# EAGLE library part MPTC-01-80 (library samtec)
Samtec 30A Signal/Power Combo System Part number: MPTC-01-80-01 Datasheet <http://suddendocs.samtec.com/catalog_english/mptc.pdf>, Drawing <http://suddendocs.samtec.com/prints/mptc-xx-xx-xx-6.30-xx-x-v-xx-mkt.pdf>, Footprint <http://suddendocs.samtec.com/prints/mptc-xx-xx-xx-6.30-xx-x-v-xx-footprint.pdf> Created by: Ben Hurwitz Created on: 3 Dec 2015 Project: Backplane Group: Robotics @ Maryland Autonomous Submarine University of Maryland, College Park, MD, USA Description; This is an 82-pin female signal/power combination plug, with 80 5A signal pins and 2 24.7A power blades (each uses six pins). It was designed to be used on a backplane for the autonomous submarine to connect the four main daughterboards to the CPU and batteries via the backplane. It fits with the Samtec MPSC male half.
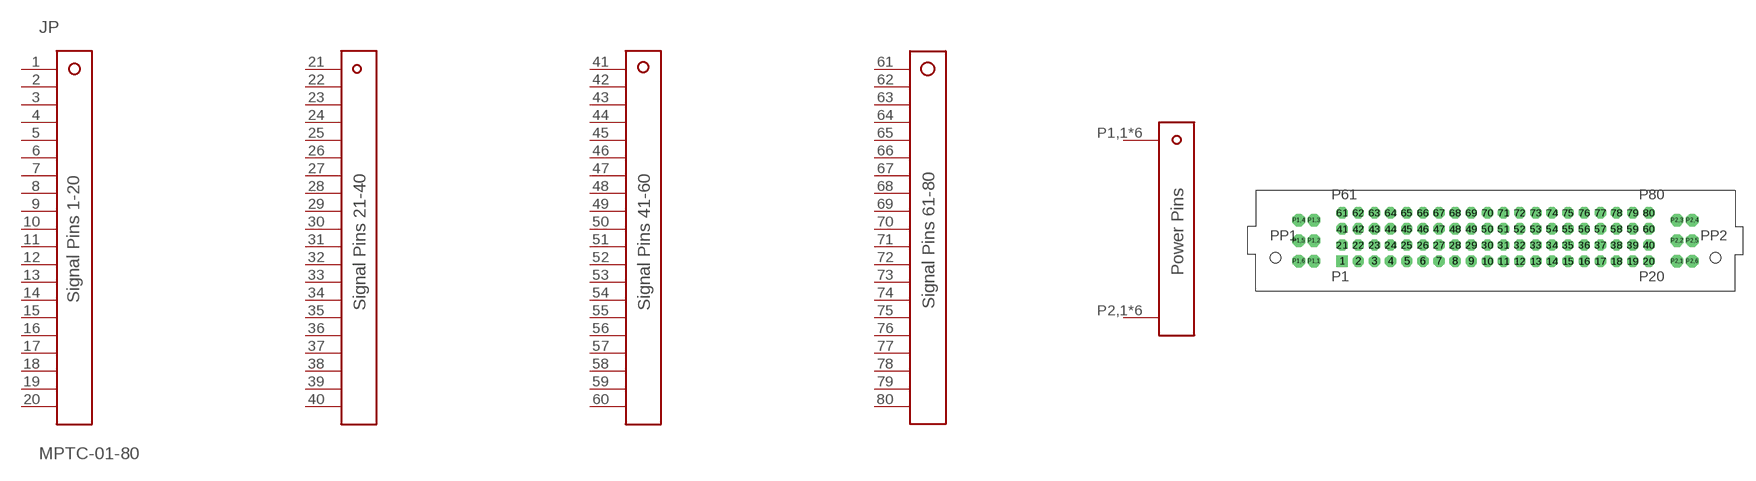
[diagram p0: symbol with the pads of MPTC-01-80; footprint MPTC-01-80]

Designator prefix JP

## MPTC-01-80  [MPTC-01-80]
1  P$1
2  P$2
3  P$3
4  P$4
5  P$5
6  P$6
7  P$7
8  P$8
9  P$9
10  P$10
11  P$11
12  P$12
13  P$13
14  P$14
15  P$15
16  P$16
17  P$17
18  P$18
19  P$19
20  P$20
21  P$21
22  P$22
23  P$23
24  P$24
25  P$25
26  P$26
27  P$27
28  P$28
29  P$29
30  P$30
31  P$31
32  P$32
33  P$33
34  P$34
35  P$35
36  P$36
37  P$37
38  P$38
39  P$39
40  P$40
41  P$41
42  P$42
43  P$43
44  P$44
45  P$45
46  P$46
47  P$47
48  P$48
49  P$49
50  P$50
51  P$51
52  P$52
53  P$53
54  P$54
55  P$55
56  P$56
57  P$57
58  P$58
59  P$59
60  P$60
61  P$61
62  P$62
63  P$63
64  P$64
65  P$65
66  P$66
67  P$67
68  P$68
69  P$69
70  P$70
71  P$71
72  P$72
73  P$73
74  P$74
75  P$75
76  P$76
77  P$77
78  P$78
79  P$79
80  P$80
P1,1  POWER1
P1,2  POWER1
P1,3  POWER1
P1,4  POWER1
P1,5  POWER1
P1,6  POWER1
P2,1  POWER2
P2,2  POWER2
P2,3  POWER2
P2,4  POWER2
P2,5  POWER2
P2,6  POWER2

## Footprint MPTC-01-80 (pad centres in mm)
drill 0.9 square: 1 -19,-2.54
drill 0.9 octagon: 2 -17,-2.54; 3 -15,-2.54; 4 -13,-2.54; 5 -11,-2.54; 6 -9,-2.54; 7 -7,-2.54; 8 -5,-2.54; 9 -3,-2.54; 10 -1,-2.54; 11 1,-2.54; 12 3,-2.54; 13 5,-2.54; 14 7,-2.54; 15 9,-2.54; 16 11,-2.54; 17 13,-2.54; 18 15,-2.54; 19 17,-2.54; 20 19,-2.54; 21 -19,-0.54; 22 -17,-0.54; 23 -15,-0.54; 24 -13,-0.54; 25 -11,-0.54; 26 -9,-0.54; 27 -7,-0.54; 28 -5,-0.54; 29 -3,-0.54; 30 -1,-0.54; 31 1,-0.54; 32 3,-0.54; 33 5,-0.54; 34 7,-0.54; 35 9,-0.54; 36 11,-0.54; 37 13,-0.54; 38 15,-0.54; 39 17,-0.54; 40 19,-0.54; 41 -19,1.46; 42 -17,1.46; 43 -15,1.46; 44 -13,1.46; 45 -11,1.46; 46 -9,1.46; 47 -7,1.46; 48 -5,1.46; 49 -3,1.46; 50 -1,1.46; 51 1,1.46; 52 3,1.46; 53 5,1.46; 54 7,1.46; 55 9,1.46; 56 11,1.46; 57 13,1.46; 58 15,1.46; 59 17,1.46; 60 19,1.46; 61 -19,3.46; 62 -17,3.46; 63 -15,3.46; 64 -13,3.46; 65 -11,3.46; 66 -9,3.46; 67 -7,3.46; 68 -5,3.46; 69 -3,3.46; 70 -1,3.46; 71 1,3.46; 72 3,3.46; 73 5,3.46; 74 7,3.46; 75 9,3.46; 76 11,3.46; 77 13,3.46; 78 15,3.46; 79 17,3.46; 80 19,3.46
drill 1.04 octagon: P1,1 -22.5,-2.54; P1,2 -22.5,0; P1,3 -22.5,2.54; P1,4 -24.38,2.54; P1,5 -24.38,0; P1,6 -24.38,-2.54; P2,1 22.5,-2.54; P2,2 22.5,0; P2,3 22.5,2.54; P2,4 24.38,2.54; P2,5 24.38,0; P2,6 24.38,-2.54
hole 1.3 at -27.255,-2.15
hole 1.3 at 27.255,-2.15